# Altium schematic symbol library 3 pin.SchLib: 1 symbol
Pins are listed as number, name and electrical type; pins without a type are passive.

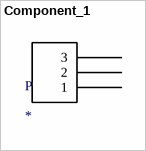
[diagram p0: symbol Component_1]

## Component_1
designator P
footprint 3pinmolex
pins: 1, 2, 3